# EAGLE library part ARDUINO_MKR (library Arduino_MKR)
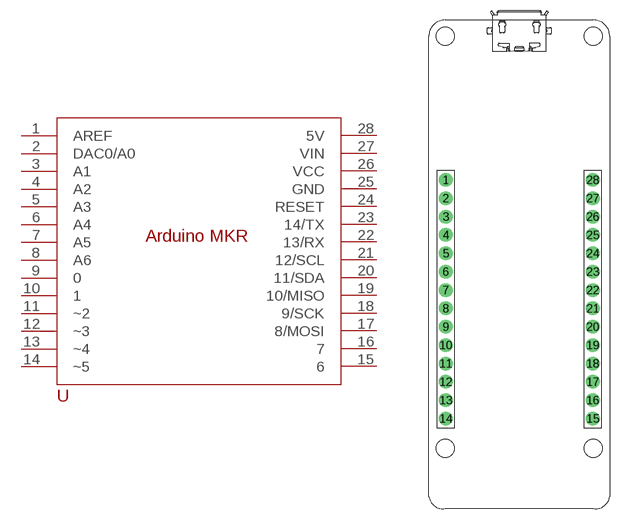
[diagram p0: symbol with the pads of ARDUINO_MKR; footprint ARDUINO_MKR]

Designator prefix -

## ARDUINO_MKR  [ARDUINO_MKR]
1  AREF
2  DAC0/A0
3  A1
4  A2
5  A3
6  A4
7  A5
8  A6
9  0
10  1
11  ~2
12  ~3
13  ~4
14  ~5
15  6
16  7
17  8/MOSI
18  9/SCK
19  10/MISO
20  11/SDA
21  12/SCL
22  13/RX
23  14/TX
24  RESET
25  GND
26  VCC
27  VIN
28  5V

## Footprint ARDUINO_MKR (pad centres in mm)
drill 1.016 pad 1.88: 1 -10.16,11.04; 2 -10.16,8.5; 3 -10.16,5.96; 4 -10.16,3.42; 5 -10.16,0.88; 6 -10.16,-1.66; 7 -10.16,-4.2; 8 -10.16,-6.74; 9 -10.16,-9.28; 10 -10.16,-11.82; 11 -10.16,-14.36; 12 -10.16,-16.9; 13 -10.16,-19.44; 14 -10.16,-21.98; 15 10.16,-21.98; 16 10.16,-19.44; 17 10.16,-16.9; 18 10.16,-14.36; 19 10.16,-11.82; 20 10.16,-9.28; 21 10.16,-6.74; 22 10.16,-4.2; 23 10.16,-1.66; 24 10.16,0.88; 25 10.16,3.42; 26 10.16,5.96; 27 10.16,8.5; 28 10.16,11.04